# EAGLE library part FH12A-24S-0.5SH (library CON-Hirose-AON)
Flat cable connector 0.5mm Pitch TOP Contact Type Jara 3.9.17 z 24pinoveho BOTTOM
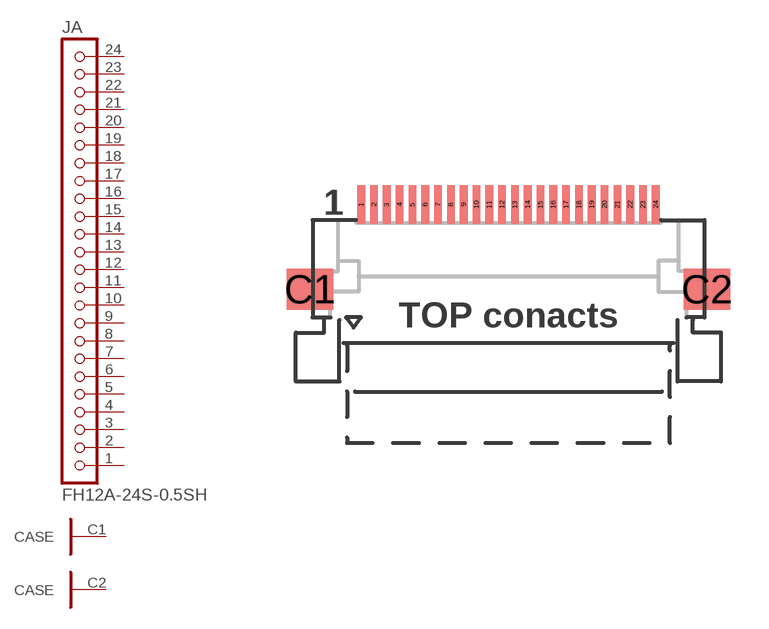
[diagram p5: symbol with the pads of FH12A-24S-05SH; footprint FH12A-24S-05SH]

Designator prefix J; gates A=MA24-1 PAD1=CASE PAD2=CASE

## FH12A-24S-0.5SH  [FH12A-24S-05SH]
1  A:1  pas
2  A:2  pas
3  A:3  pas
4  A:4  pas
5  A:5  pas
6  A:6  pas
7  A:7  pas
8  A:8  pas
9  A:9  pas
10  A:10  pas
11  A:11  pas
12  A:12  pas
13  A:13  pas
14  A:14  pas
15  A:15  pas
16  A:16  pas
17  A:17  pas
18  A:18  pas
19  A:19  pas
20  A:20  pas
21  A:21  pas
22  A:22  pas
23  A:23  pas
24  A:24  pas
C1  PAD1:CASE
C2  PAD2:CASE

## Footprint FH12A-24S-05SH (pad centres in mm)
Flat cable connector 0.5mm Pitch TOP Contact Type Jara 3.9.2017
smd 0.3 x 1.5: 1 -5.75,2.8; 2 -5.25,2.8; 3 -4.75,2.8; 4 -4.25,2.8; 5 -3.75,2.8; 6 -3.25,2.8; 7 -2.75,2.8; 8 -2.25,2.8; 9 -1.75,2.8; 10 -1.25,2.8; 11 -0.75,2.8; 12 -0.25,2.8; 13 0.25,2.8; 14 0.75,2.8; 15 1.25,2.8; 16 1.75,2.8; 17 2.25,2.8; 18 2.75,2.8; 19 3.25,2.8; 20 3.75,2.8; 21 4.25,2.8; 22 4.75,2.8; 23 5.25,2.8; 24 5.75,2.8
smd 1.8 x 1.6: C1 -7.75,-0.5; C2 7.75,-0.5